# Altium schematic symbol library AltiumDesigner.SchLib: 2 symbols
Pins are listed as number, name and electrical type; pins without a type are passive.

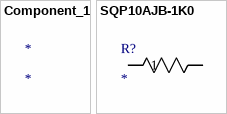
[diagram p0: symbols Component_1 to SQP10AJB-1K0]

## Component_1
designator *

## SQP10AJB-1K0
designator R?
Imported; Manufacturer_Part_Number: SQP10AJB-1K0; Vendor: Yageo; Built_By: EMA_UL_Team; C: Copyright (C) 2015 Accelerated Designs. All rights reserved; RefDes: RefDes; Type: DEV; Value: Value
footprint YAG_SQP10
pins: 1, 2